# EAGLE library part NEXPERIA-NXB0102 (library EagleLibrary)
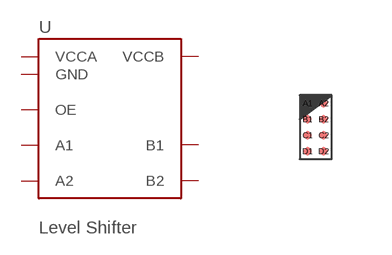
[diagram p55: symbol with the pads of NEXPERIA-NXB0102UN; footprint NEXPERIA-NXB0102UN]

Designator prefix U

## NEXPERIA-NXB0102 (MFG: Nexperia; PN: NXB0102UN)  [NEXPERIA-NXB0102UN]
A1  B2
A2  B1
B1  GND
B2  VCCB
C1  VCCA
C2  OE
D1  A2
D2  A1

## Footprint NEXPERIA-NXB0102UN (pad centres in mm)
smd 0.2 x 0.2: A1 -0.2,0.6; A2 0.2,0.6; B1 -0.2,0.2; B2 0.2,0.2; C1 -0.2,-0.2; C2 0.2,-0.2; D1 -0.2,-0.6; D2 0.2,-0.6